# EAGLE library part 2MM-DUAL-16-HEADER (library DAC)
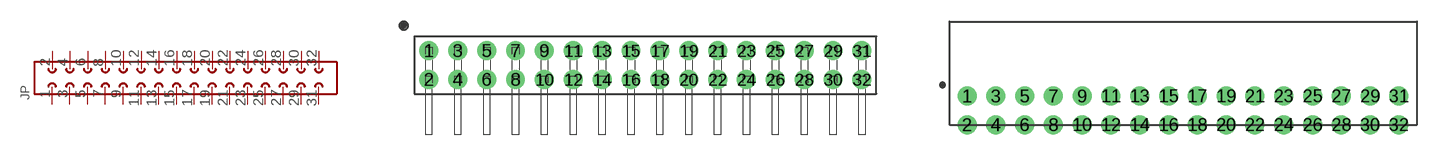
[diagram p12: symbol with the pads of 2MMDUALR/AHEADER-16; footprints 2MMDUALR/AHEADER-16, 2MMDUALR/ARECEPT-16]

Designator prefix JP

## 2MM-DUAL-16-HEADERMALE  [2MMDUALR/AHEADER-16]
1  P$1
2  P$2
3  P$3
4  P$4
5  P$5
6  P$6
7  P$7
8  P$8
9  P$9
10  P$10
11  P$11
12  P$12
13  P$13
14  P$14
15  P$15
16  P$16
17  P$17
18  P$18
19  P$19
20  P$20
21  P$21
22  P$22
23  P$23
24  P$24
25  P$25
26  P$26
27  P$27
28  P$28
29  P$29
30  P$30
31  P$31
32  P$32

## 2MM-DUAL-16-HEADERFEMALE  [2MMDUALR/ARECEPT-16]
Pads as for 2MMDUALR/AHEADER-16

## Footprint 2MMDUALR/AHEADER-16 (pad centres in mm)
drill 0.8 round: 1 -15,1; 2 -15,-1; 3 -13,1; 4 -13,-1; 5 -11,1; 6 -11,-1; 7 -9,1; 8 -9,-1; 9 -7,1; 10 -7,-1; 11 -5,1; 12 -5,-1; 13 -3,1; 14 -3,-1; 15 -1,1; 16 -1,-1; 17 1,1; 18 1,-1; 19 3,1; 20 3,-1; 21 5,1; 22 5,-1; 23 7,1; 24 7,-1; 25 9,1; 26 9,-1; 27 11,1; 28 11,-1; 29 13,1; 30 13,-1; 31 15,1; 32 15,-1

## Footprint 2MMDUALR/ARECEPT-16 (pad centres in mm)
drill 0.813 round: 1 -15,1; 2 -15,-1; 3 -13,1; 4 -13,-1; 5 -11,1; 6 -11,-1; 7 -9,1; 8 -9,-1; 9 -7,1; 10 -7,-1; 11 -5,1; 12 -5,-1; 13 -3,1; 14 -3,-1; 15 -1,1; 16 -1,-1; 17 1,1; 18 1,-1; 19 3,1; 20 3,-1; 21 5,1; 22 5,-1; 23 7,1; 24 7,-1; 25 9,1; 26 9,-1; 27 11,1; 28 11,-1; 29 13,1; 30 13,-1; 31 15,1; 32 15,-1